# EAGLE library part MCP23008 (library signpost)
GPIO Extender via I2C - 8 Pin
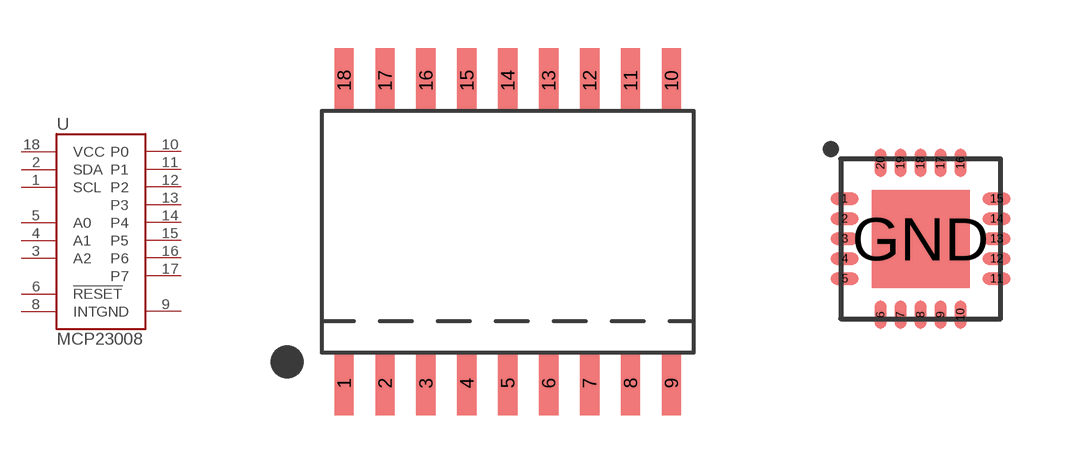
[diagram p17: symbol with the pads of SOIC-18; footprints SOIC-18, QFN-20-4MM]

Designator prefix U

## MCP23008  [SOIC-18]
1  SCL
2  SDA
3  A2
4  A1
5  A0
6  !RESET
8  INT
9  GND
10  P0
11  P1
12  P2
13  P3
14  P4
15  P5
16  P6
17  P7
18  VCC

## MCP23008QFN (DIGIKEY: MCP23008-E/ML-ND)  [QFN-20-4MM]
1  A2
2  A1
3  A0
4  !RESET
7  INT
9  P0
10  P1
11  P2
12  P3
13  P4
14  P5
15  P6
16  P7
17  GND
18  VCC
19  SCL
20  SDA
GND  GND

## Footprint SOIC-18 (pad centres in mm)
smd 0.6 x 2: 1 -5.08,-4.7; 2 -3.81,-4.7; 3 -2.54,-4.7; 4 -1.27,-4.7; 5 0,-4.7; 6 1.27,-4.7; 7 2.54,-4.7; 8 3.81,-4.7; 9 5.08,-4.7; 10 5.08,4.7; 11 3.81,4.7; 12 2.54,4.7; 13 1.27,4.7; 14 0,4.7; 15 -1.27,4.7; 16 -2.54,4.7; 17 -3.81,4.7; 18 -5.08,4.7

## Footprint QFN-20-4MM (pad centres in mm)
smd 0.7 x 0.3: 1 -1.9,1; 2 -1.9,0.5; 3 -1.9,0; 4 -1.9,-0.5; 5 -1.9,-1; 11 1.9,-1; 12 1.9,-0.5; 13 1.9,0; 14 1.9,0.5; 15 1.9,1
smd 0.3 x 0.7: 6 -1,-1.9; 7 -0.5,-1.9; 8 0,-1.9; 9 0.5,-1.9; 10 1,-1.9; 16 1,1.9; 17 0.5,1.9; 18 0,1.9; 19 -0.5,1.9; 20 -1,1.9
smd 2.45 x 2.45: GND 0,0